# Altium integrated library LIB2022 - Fuses.IntLib: 2 symbols
Pins are listed as number, name and electrical type; pins without a type are passive.

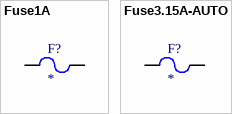
[diagram p0: symbols Fuse1A to Fuse3.15A-AUTO]

## Fuse1A
designator F?
footprint RAD - 8.50mm x 8.00mm
pins: 1, 2

## Fuse3.15A-AUTO
designator F?
footprint FUSE-HOLDER-BLADE
pins: 1, 2